# EAGLE library part PQPOWER3 (library LMA)
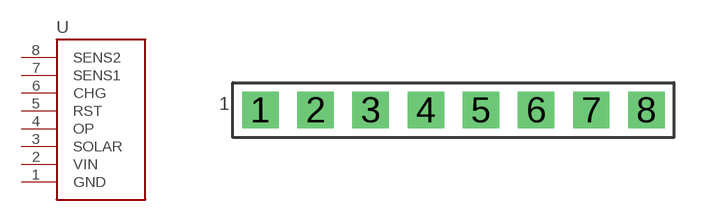
[diagram p3: symbol with the pads of 8WAY1ROWANGLED; footprint 8WAY1ROWANGLED]

Designator prefix -

## PQPOWER3  [8WAY1ROWANGLED]
1  GND
2  VIN
3  SOLAR
4  OP
5  RST
6  CHG
7  SENS1
8  SENS2

## Footprint 8WAY1ROWANGLED (pad centres in mm)
drill 0.9 pad 1.676 square: 1 -10.16,0; 2 -7.62,0; 3 -5.08,0; 4 -2.54,0; 5 0,0; 6 2.54,0; 7 5.08,0; 8 7.62,0